# Altium schematic symbol library power_diode.SchLib: 15 symbols
Pins are listed as number, name and electrical type; pins without a type are passive.

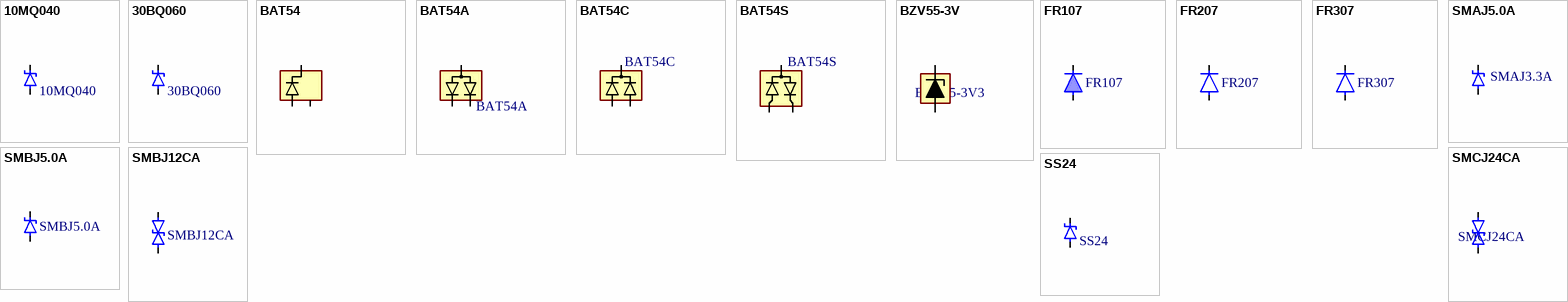
[diagram p0: symbols 10MQ040 to SS24]

## 10MQ040
designator VD?
Schottky 40V 1A; Value: *; RevisionDate: 11-01-2018; Name: 10MQ040
footprint SMA/DO-214 (Molded Diode, 2-Leads, Body 4,30x2,60mm, IPC Medium Density)
pins: 1, 2

## 30BQ060
designator VD?
Schottky 60V 3A; Value: *; RevisionDate: 11-01-2018; Name: 30BQ060
footprint SMC (Molded Diode, 2-Leads, Body 7,97x5,91mm, IPC Medium Density)
pins: 1, 2

## BAT54
designator VD?
Schottky 30V 0.2A; Value: *; RevisionDate: 11-01-2018; Name: BAT54
footprint SOT-23/BR (SOT23, 3-Leads, Body 2,95x2,82mm, Pitch 0,95mm, IPC Medium Density)
pins: 1, 2, 3

## BAT54A
designator VD?
Schottky 30V 0.2A; Value: *; RevisionDate: 11-01-2018; Name: BAT54A
footprint SOT-23/BR (SOT23, 3-Leads, Body 2,95x2,82mm, Pitch 0,95mm, IPC Medium Density)
pins: 1, 2, 3

## BAT54C
designator VD?
Schottky 30V 0.2A; Value: *; RevisionDate: 11-01-2018; Name: BAT54C
footprint SOT-23/BR (SOT23, 3-Leads, Body 2,95x2,82mm, Pitch 0,95mm, IPC Medium Density)
pins: 1, 2, 3

## BAT54S
designator VD?
Schottky 30V 0.2A; Value: *; RevisionDate: 11-01-2018; Name: BAT54S
footprint SOT-23/BR (SOT23, 3-Leads, Body 2,95x2,82mm, Pitch 0,95mm, IPC Medium Density)
pins: 1, 2, 3

## BZV55-3V
designator VD?, comment BZV55-3V3
Zener 3.3V 250mW; Value: 3V3; RevisionDate: 11-01-2018; Name: BZV55-3V3
footprint SOT-23/BR (SOT23, 3-Leads, Body 2,95x2,82mm, Pitch 0,95mm, IPC Medium Density)
footprint SOD80-QMELF (MELF Diode, 2-Leads, Body 3,50x1,50mm, IPC Medium Density)
pins: 1, 2

## FR107
designator VD?
Pulse diode 1A 700V 300ns; Value: 700V 1A; RevisionDate: 11-01-2018; Package: DO-41; Name: FR107
footprint DO-41 (Diode, Axial; Body 4.7 x 2.7 mm (LxDia. max), Lead Dia. 0.86 mm (max))
footprint SMA/DO-214 (Molded Diode, 2-Leads, Body 4,30x2,60mm, IPC Medium Density)
pins: 1, 2

## FR207
designator VD?
Pulse diode 2A 700V 500ns; Value: 700V 2.0A; RevisionDate: 11-01-2018; Package: DO-15; Name: FR207
footprint DO-15 (Diode, Axial; Body 4.7 x 2.7 mm (LxDia. max), Lead Dia. 0.86 mm (max))
footprint SMB (Molded Diode, 2-Leads, Body 5,30x3,65mm, IPC Medium Density)
pins: 1, 2

## FR307
designator VD?
Pulse diode 3A 700V 800ns; Value: 700V 3A; RevisionDate: 11-01-2018; Package: DO-201; Name: FR307
footprint DO-201 (Diode, Axial; Body 4.7 x 2.7 mm (LxDia. max), Lead Dia. 0.86 mm (max))
footprint SMC (Molded Diode, 2-Leads, Body 7,97x5,91mm, IPC Medium Density)
pins: 1, 2

## SMAJ5.0A
designator VD?, comment SMAJ3.3A
TVS 1A single-pole; Value: *; RevisionDate: 11-01-2018; Name: SMAJ3.3A
footprint SOD-123F-B (Molded Diode, 2-Leads, Body 3,50x1,80mm, IPC Medium Density)
pins: 1, 2

## SMBJ5.0A
designator VD?
TVS 2A single-pole; Value: *; RevisionDate: 11-01-2018; Name: SMBJ5.0A
footprint SMB (Molded Diode, 2-Leads, Body 5,30x3,65mm, IPC Medium Density)
pins: 1, 2

## SMBJ12CA
designator VD?
TVS 2A bi-directional; Value: *; RevisionDate: 11-01-2018; Name: SMBJ12CA
footprint SMB (Molded Diode, 2-Leads, Body 5,30x3,65mm, IPC Medium Density)
pins: 1, 2

## SMCJ24CA
designator VD?
TVS 3A bi-directional; Value: *; RevisionDate: 11-01-2018; Name: SMCJ24CA
footprint SMC (Molded Diode, 2-Leads, Body 7,97x5,91mm, IPC Medium Density)
pins: 1, 2

## SS24
designator VD?
Schottky 40V 2A; Value: 40V 2A; RevisionDate: 11-01-2018; Name: SS24
footprint SMB (Molded Diode, 2-Leads, Body 5,30x3,65mm, IPC Medium Density)
pins: 1, 2